# EAGLE library part USB-CONN (library parts)
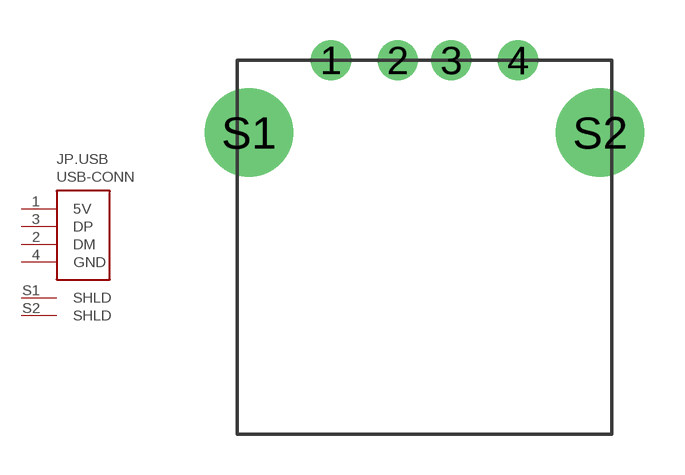
[diagram p2: symbol with the pads of UE27AC; footprint UE27AC]

Designator prefix JP; gates .USB=USB G$2=SHLD G$3=SHLD

## USB-CONN  [UE27AC]
1  .USB:5V  pas
2  .USB:DM  pas
3  .USB:DP  pas
4  .USB:GND  pas
S1  G$2:SHLD  pas
S2  G$3:SHLD  pas

## Footprint UE27AC (pad centres in mm)
drill 1 round: 1 -3.5,0; 2 -1,0; 3 1,0; 4 3.5,0
drill 2.3 round: S1 -6.57,-2.71; S2 6.57,-2.71